# EAGLE library part SWITCH,DP10T (library QuantumOptics)
Rotary switch, DP8T, such as Grayhill 71BDF36-02PAJN, can have stops to reduce number of positions.
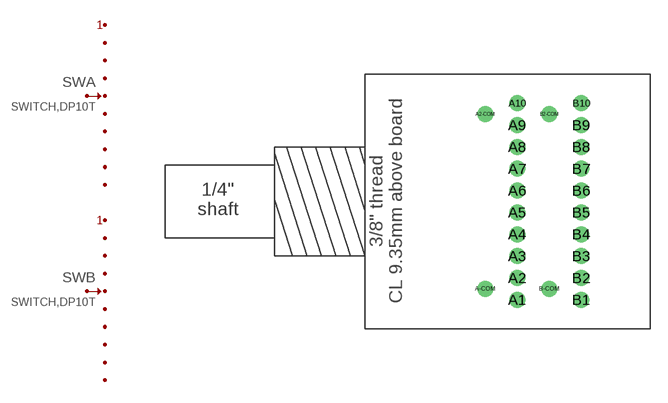
[diagram p172: symbol with the pads of SWITCH,GRAYHILL_71BDF36; footprint SWITCH,GRAYHILL_71BDF36]

Designator prefix SW; gates A=SWITCH,SP10T B=SWITCH,SP10T

## SWITCH,DP10T-GRAYHILL_71BDF36  [SWITCH,GRAYHILL_71BDF36]
A1  A:1
A2  A:2
A3  A:3
A4  A:4
A5  A:5
A6  A:6
A7  A:7
A8  A:8
A9  A:9
A10  A:10
A-COM  A:W
B1  B:1
B2  B:2
B3  B:3
B4  B:4
B5  B:5
B6  B:6
B7  B:7
B8  B:8
B9  B:9
B10  B:10
B-COM  B:W

## Footprint SWITCH,GRAYHILL_71BDF36 (pad centres in mm)
Rotary Switch, 2 deck, 10 position, such as Grayhill 71BDF36-02PAJN. Has alternate commons for 2 poles per deck.
drill 0.889: A1 0,-9.525; A2 0,-7.62; A2-COM -2.794,6.668; A3 0,-5.715; A4 0,-3.81; A5 0,-1.905; A6 0,0; A7 0,1.905; A8 0,3.81; A9 0,5.715; A10 0,7.62; A-COM -2.794,-8.572; B1 5.588,-9.525; B2 5.588,-7.62; B2-COM 2.794,6.668; B3 5.588,-5.715; B4 5.588,-3.81; B5 5.588,-1.905; B6 5.588,0; B7 5.588,1.905; B8 5.588,3.81; B9 5.588,5.715; B10 5.588,7.62; B-COM 2.794,-8.572